# Altium footprint library BBCMP-P18-L2032W4318.PcbLib: 1 footprints
Each footprint in its own frame and in the unit in brackets; x right, y up, seen from the top. Pads: shape width x height; smd on the part's side, far side on the other; paste and mask are expansions set on the pad; w line width, h text height; cw(c..) or ccw(c..) is an arc to the next point about the centre after c.
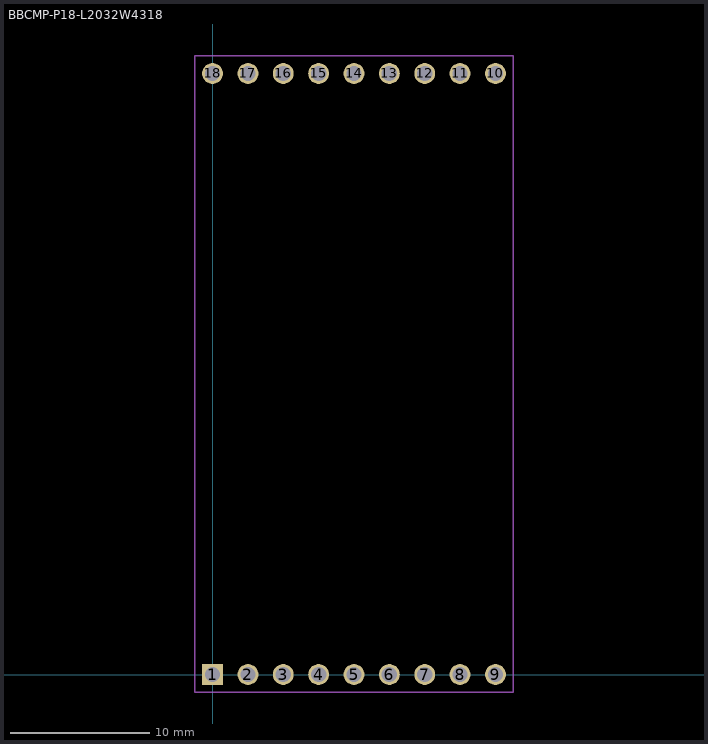
[diagram p0: the footprint, top view; thin cyan lines are the x and y axes]

## BBCMP-P18-L2032W4318 [mm]
pads (18):
  rect 1.5x1.5 hole 1.1: 1(0,0)
  round 1.5 hole 1.1: 2(2.54,0) 3(5.08,0) 4(7.62,0) 5(10.16,0) 6(12.7,0) 7(15.24,0) 8(17.78,0) 9(20.32,0) 10(20.32,43.18) 11(17.78,43.18) 12(15.24,43.18) 13(12.7,43.18) 14(10.16,43.18) 15(7.62,43.18) 16(5.08,43.18) 17(2.54,43.18) 18(0,43.18)
Mechanical 13:
  lines w0.1: -1.27,-1.27 21.59,-1.27 21.59,44.45 -1.27,44.45 -1.27,-1.27
Mechanical 15:
  lines w0.1: -1.27,-1.27 21.59,-1.27 21.59,44.45 -1.27,44.45 -1.27,-1.27
3D body: height 8.54, standoff -3, extent -1.27,-1.27 21.59,1.27
3D body: height 8.54, standoff -3, extent -1.27,41.91 21.59,44.45